# Altium schematic symbol library MCP6002T-I_SN.Schlib: 1 symbol
Pins are listed as number, name and electrical type; pins without a type are passive.

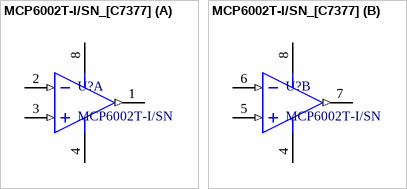
[diagram p0: symbol MCP6002T-I/SN_[C7377]]

## MCP6002T-I/SN_[C7377]
designator U?, comment MCP6002T-I/SN
运放
footprint SOIC-8_150mil
pins on every part: 4 VSS (power), 8 VDD (power)
part A pins: 1 VOUTA (out), 2 VINA- (in), 3 VINA+ (in)
part B pins: 5 VINB+ (in), 6 VINB- (in), 7 VOUTB (out)